# Altium integrated library AD Operational Amplifier.IntLib: 1114 symbols (part 11 of 13)
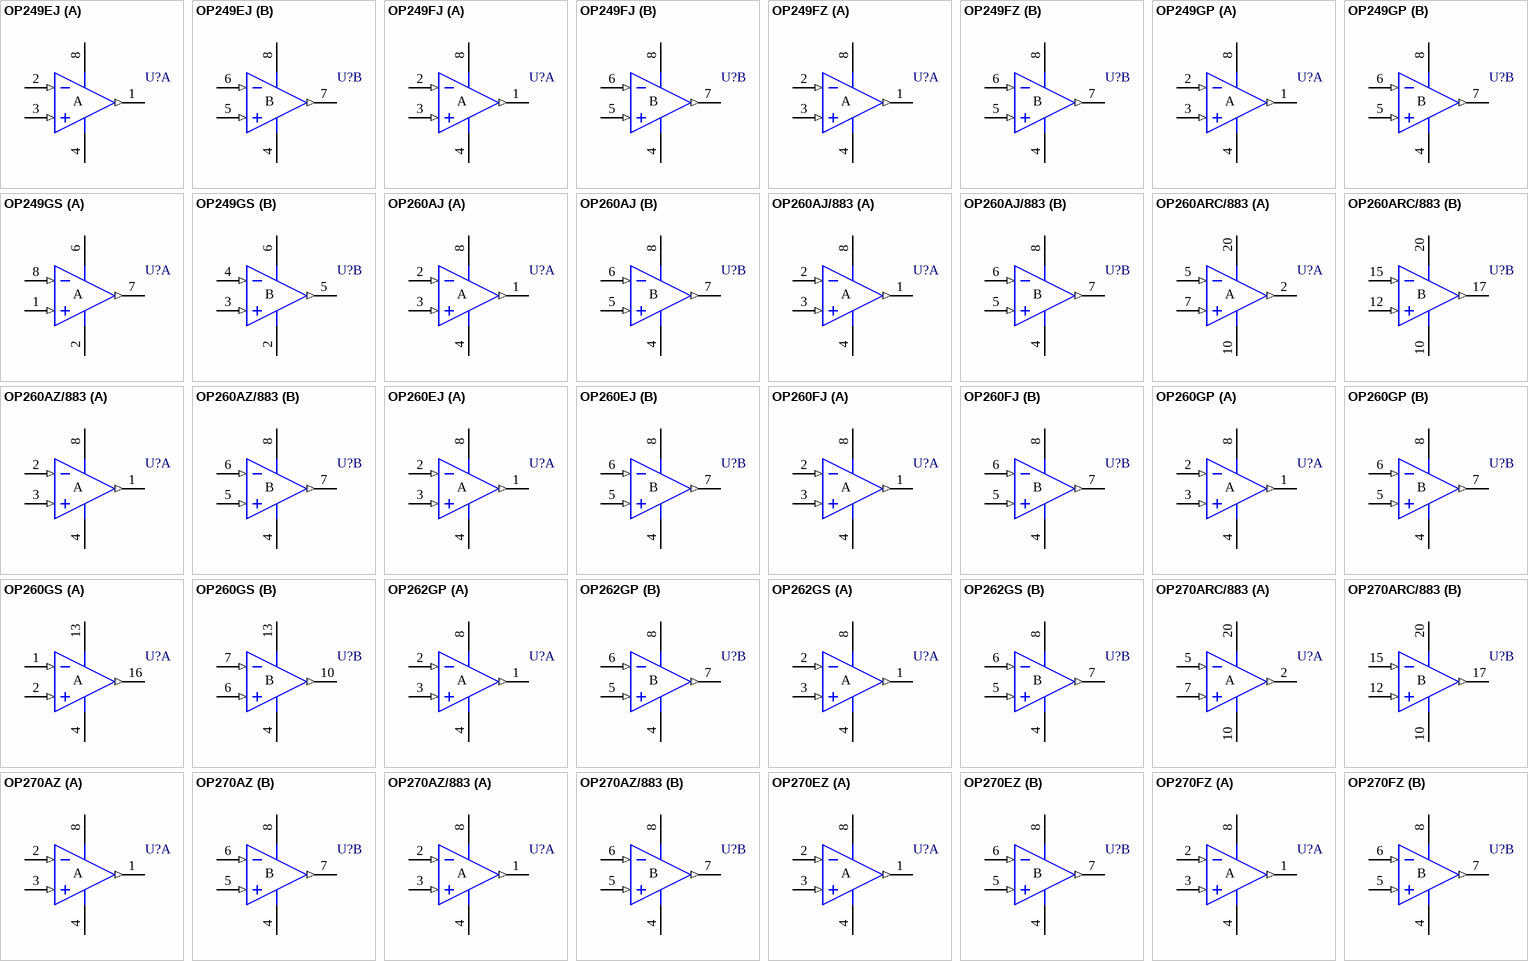
[diagram p56: symbols OP249EJ to OP270FZ]

## OP249EJ
designator U?
Dual, Precision JFET High-Speed Operational Amplifier; Package Information: Latest Revision: 1990; Published: 8-Jun-2000; Revision: 17-Jul-2002: Re-released for DXP Platform.; Datasheet: Designer's Reference Manual CD (REV. C 1998); Package Reference: H-08A; Publisher: Altium Limited
footprint H-08A (Can; 8 Leads; Pin Circle Dia. 5.08 mm; Lead Dia. 0.53 mm (max))
simulation model OP249E (SUBCKT)
pins on every part: 4 V- (power), 8 V+ (power)
part A pins: 1 OUT (out), 2 IN- (in), 3 IN+ (in)
part B pins: 5 IN+ (in), 6 IN- (in), 7 OUT (out)
part A text: A
part B text: B

## OP249FJ
designator U?
Dual, Precision JFET High-Speed Operational Amplifier; Package Information: Latest Revision: 1990; Published: 8-Jun-2000; Revision: 17-Jul-2002: Re-released for DXP Platform.; Datasheet: Amplifier Reference Manual (1992); Package Reference: H-08A; Publisher: Altium Limited
footprint H-08A (Can; 8 Leads; Pin Circle Dia. 5.08 mm; Lead Dia. 0.53 mm (max))
simulation model OP249F (SUBCKT)
pins on every part: 4 V- (power), 8 V+ (power)
part A pins: 1 OUT (out), 2 IN- (in), 3 IN+ (in)
part B pins: 5 IN+ (in), 6 IN- (in), 7 OUT (out)
part A text: A
part B text: B

## OP249FZ
designator U?
Dual, Precision JFET High-Speed Operational Amplifier; Package Information: Latest Revision: 1998; Published: 8-Jun-2000; Revision: 17-Jul-2002: Re-released for DXP Platform.; Datasheet: Designer's Reference Manual CD (REV. C 1998); Package Reference: Q-8; Publisher: Altium Limited
footprint Q-8 (DIP; 8 Leads; Row Spacing 7.62 mm; Pitch 2.54 mm)
simulation model OP249F (SUBCKT)
pins on every part: 4 V- (power), 8 V+ (power)
part A pins: 1 OUT (out), 2 IN- (in), 3 IN+ (in)
part B pins: 5 IN+ (in), 6 IN- (in), 7 OUT (out)
part A text: A
part B text: B

## OP249GP
designator U?
Dual, Precision JFET High-Speed Operational Amplifier; Code - JEDEC: MO-001-AN; Published: 8-Jun-2000; Revision: 17-Jul-2002: Re-released for DXP Platform.; Datasheet: Designer's Reference Manual CD (REV. C 1998); Package Reference: N-8_A; Publisher: Altium Limited
footprint N-8_A (DIP; 8 Leads; Row Spacing 7.62 mm; Pitch 2.54 mm)
simulation model OP249G (SUBCKT)
pins on every part: 4 V- (power), 8 V+ (power)
part A pins: 1 OUT (out), 2 IN- (in), 3 IN+ (in)
part B pins: 5 IN+ (in), 6 IN- (in), 7 OUT (out)
part A text: A
part B text: B

## OP249GS
designator U?
Dual, Precision JFET High-Speed Operational Amplifier; Package Information: Latest Revision: revA; Code - JEDEC: MS-012-AA; Code - IPC: SO8; Published: 8-Jun-2000; Revision: 17-Jul-2002: Re-released for DXP Platform.; Datasheet: Designer's Reference Manual CD (REV. C 1998); Package Reference: SO-8; Publisher: Altium Limited
footprint SO-8 (Small Outline; 8 Leads; Body Width 3.9 mm; Pitch 1.27 mm)
simulation model OP249G (SUBCKT)
pins on every part: 2 V- (power), 6 V+ (power)
part A pins: 1 IN+ (in), 7 OUT (out), 8 IN- (in)
part B pins: 3 IN+ (in), 4 IN- (in), 5 OUT (out)
part A text: A
part B text: B

## OP260AJ
designator U?
Dual, High-Speed, Current Feedback, Operational Amplifier; Package Information: Latest Revision: 1990; Note: Pin 4 connected to case.; Published: 8-Jun-2000; Revision: 17-Jul-2002: Re-released for DXP Platform.; Datasheet: Designer's Reference Manual CD (REV. C1 5/1990); Package Reference: H-08A; Publisher: Altium Limited
footprint H-08A (Can; 8 Leads; Pin Circle Dia. 5.08 mm; Lead Dia. 0.53 mm (max))
simulation model OP260 (SUBCKT)
pins on every part: 4 V- (power), 8 V+ (power)
part A pins: 1 OUT (out), 2 IN- (in), 3 IN+ (in)
part B pins: 5 IN+ (in), 6 IN- (in), 7 OUT (out)
part A text: A
part B text: B

## OP260AJ/883
designator U?
Dual, High-Speed, Current Feedback, Operational Amplifier; Package Information: Latest Revision: 1990; Note: Pin 4 connected to case.; Published: 8-Jun-2000; Revision: 17-Jul-2002: Re-released for DXP Platform.; Datasheet: Designer's Reference Manual CD (REV. C1 5/1990); Package Reference: H-08A; Publisher: Altium Limited
footprint H-08A (Can; 8 Leads; Pin Circle Dia. 5.08 mm; Lead Dia. 0.53 mm (max))
simulation model OP260 (SUBCKT)
pins on every part: 4 V- (power), 8 V+ (power)
part A pins: 1 OUT (out), 2 IN- (in), 3 IN+ (in)
part B pins: 5 IN+ (in), 6 IN- (in), 7 OUT (out)
part A text: A
part B text: B

## OP260ARC/883
designator U?
Dual, High-Speed, Current Feedback, Operational Amplifier; Note: Pins 1, 3, 4, 6, 8, 9, 11, 13, 14, 16, 18 and 19 are not connected (NC) and are not drawn.; Published: 8-Jun-2000; Revision: 17-Jul-2002: Re-released for DXP Platform.; Datasheet: Designer's Reference Manual CD (REV. C1 5/1990); Package Reference: E-20A; Publisher: Altium Limited
footprint E-20A (Leadless Chip Carrier; 20 Terminals; Body 8.9 x 8.9 mm)
simulation model OP260 (SUBCKT)
pins on every part: 10 V- (power), 20 V+ (power)
part A pins: 2 OUT (out), 5 IN- (in), 7 IN+ (in)
part B pins: 12 IN+ (in), 15 IN- (in), 17 OUT (out)
part A text: A
part B text: B

## OP260AZ/883
designator U?
Dual, High-Speed, Current Feedback, Operational Amplifier; Package Information: Latest Revision: 1998; Published: 8-Jun-2000; Revision: 17-Jul-2002: Re-released for DXP Platform.; Datasheet: Designer's Reference Manual CD (REV. C1 5/1990); Package Reference: Q-8; Publisher: Altium Limited
footprint Q-8 (DIP; 8 Leads; Row Spacing 7.62 mm; Pitch 2.54 mm)
simulation model OP260 (SUBCKT)
pins on every part: 4 V- (power), 8 V+ (power)
part A pins: 1 OUT (out), 2 IN- (in), 3 IN+ (in)
part B pins: 5 IN+ (in), 6 IN- (in), 7 OUT (out)
part A text: A
part B text: B

## OP260EJ
designator U?
Dual, High-Speed, Current Feedback, Operational Amplifier; Package Information: Latest Revision: 1990; Note: Pin 4 connected to case.; Published: 8-Jun-2000; Revision: 17-Jul-2002: Re-released for DXP Platform.; Datasheet: Designer's Reference Manual CD (REV. C1 5/1990); Package Reference: H-08A; Publisher: Altium Limited
footprint H-08A (Can; 8 Leads; Pin Circle Dia. 5.08 mm; Lead Dia. 0.53 mm (max))
simulation model OP260 (SUBCKT)
pins on every part: 4 V- (power), 8 V+ (power)
part A pins: 1 OUT (out), 2 IN- (in), 3 IN+ (in)
part B pins: 5 IN+ (in), 6 IN- (in), 7 OUT (out)
part A text: A
part B text: B

## OP260FJ
designator U?
Dual, High-Speed, Current Feedback, Operational Amplifier; Package Information: Latest Revision: 1990; Note: Pin 4 connected to case.; Published: 8-Jun-2000; Revision: 17-Jul-2002: Re-released for DXP Platform.; Datasheet: Designer's Reference Manual CD (REV. C1 5/1990); Package Reference: H-08A; Publisher: Altium Limited
footprint H-08A (Can; 8 Leads; Pin Circle Dia. 5.08 mm; Lead Dia. 0.53 mm (max))
simulation model OP260 (SUBCKT)
pins on every part: 4 V- (power), 8 V+ (power)
part A pins: 1 OUT (out), 2 IN- (in), 3 IN+ (in)
part B pins: 5 IN+ (in), 6 IN- (in), 7 OUT (out)
part A text: A
part B text: B

## OP260GP
designator U?
Dual, High-Speed, Current Feedback, Operational Amplifier; Code - JEDEC: MO-001-AN; Published: 8-Jun-2000; Revision: 17-Jul-2002: Re-released for DXP Platform.; Datasheet: Designer's Reference Manual CD (REV. C1 5/1990); Package Reference: N-8_A; Publisher: Altium Limited
footprint N-8_A (DIP; 8 Leads; Row Spacing 7.62 mm; Pitch 2.54 mm)
simulation model OP260 (SUBCKT)
pins on every part: 4 V- (power), 8 V+ (power)
part A pins: 1 OUT (out), 2 IN- (in), 3 IN+ (in)
part B pins: 5 IN+ (in), 6 IN- (in), 7 OUT (out)
part A text: A
part B text: B

## OP260GS
designator U?
Dual, High-Speed, Current Feedback, Operational Amplifier; Package Information: Latest Revision: revA 1996; Note: Pins 3, 5, 8, 9, 11, 12, 14 and 15 are not connected (NC) and are not drawn.; Code - JEDEC: MS-013-AA; Code - IPC: SO16W; Published: 8-Jun-2000; Revision: 17-Jul-2002: Re-released for DXP Platform.; Datasheet: Designer's Reference Manual CD (REV. C1 5/1990); Package Reference: SOL-16; Publisher: Altium Limited
footprint SOL-16 (Small Outline; 16 Leads; Body Width 7.5 mm; Pitch 1.27 mm)
simulation model OP260 (SUBCKT)
pins on every part: 4 V- (power), 13 V+ (power)
part A pins: 1 IN- (in), 2 IN+ (in), 16 OUT (out)
part B pins: 6 IN+ (in), 7 IN- (in), 10 OUT (out)
part A text: A
part B text: B

## OP262GP
designator U?
15MHz Rail-to-Rail Operational Amplifier; Code - JEDEC: MO-001-AN; Published: 8-Jun-2000; Revision: 17-Jul-2002: Re-released for DXP Platform.; Datasheet: Designer's Reference Manual CD (REV. B 1997); Package Reference: N-8_A; Publisher: Altium Limited
footprint N-8_A (DIP; 8 Leads; Row Spacing 7.62 mm; Pitch 2.54 mm)
simulation model OP262 (SUBCKT)
pins on every part: 4 V- (power), 8 V+ (power)
part A pins: 1 OUT (out), 2 IN- (in), 3 IN+ (in)
part B pins: 5 IN+ (in), 6 IN- (in), 7 OUT (out)
part A text: A
part B text: B

## OP262GS
designator U?
15MHz Rail-to-Rail Operational Amplifier; Package Information: Latest Revision: revA; Code - JEDEC: MS-012-AA; Code - IPC: SO8; Published: 8-Jun-2000; Revision: 17-Jul-2002: Re-released for DXP Platform.; Datasheet: Designer's Reference Manual CD (REV. B 1997); Package Reference: SO-8; Publisher: Altium Limited
footprint SO-8 (Small Outline; 8 Leads; Body Width 3.9 mm; Pitch 1.27 mm)
simulation model OP262 (SUBCKT)
pins on every part: 4 V- (power), 8 V+ (power)
part A pins: 1 OUT (out), 2 IN- (in), 3 IN+ (in)
part B pins: 5 IN+ (in), 6 IN- (in), 7 OUT (out)
part A text: A
part B text: B

## OP270ARC/883
designator U?
Dual Very Low-Noise Precision Operational Amplifier; Note: Pins 1, 3, 4, 6, 8, 9, 11, 13, 14, 16, 18 and 19 are not connected (NC) and are not drawn.; Published: 8-Jun-2000; Revision: 17-Jul-2002: Re-released for DXP Platform.; Datasheet: Designer's Reference Manual CD (1992); Package Reference: E-20A; Publisher: Altium Limited
footprint E-20A (Leadless Chip Carrier; 20 Terminals; Body 8.9 x 8.9 mm)
pins on every part: 10 V- (power), 20 V+ (power)
part A pins: 2 OUT (out), 5 IN- (in), 7 IN+ (in)
part B pins: 12 IN+ (in), 15 IN- (in), 17 OUT (out)
part A text: A
part B text: B

## OP270AZ
designator U?
Dual Very Low-Noise Precision Operational Amplifier; Package Information: Latest Revision: 1998; Published: 8-Jun-2000; Revision: 17-Jul-2002: Re-released for DXP Platform.; Datasheet: Designer's Reference Manual CD (1992); Package Reference: Q-8; Publisher: Altium Limited
footprint Q-8 (DIP; 8 Leads; Row Spacing 7.62 mm; Pitch 2.54 mm)
pins on every part: 4 V- (power), 8 V+ (power)
part A pins: 1 OUT (out), 2 IN- (in), 3 IN+ (in)
part B pins: 5 IN+ (in), 6 IN- (in), 7 OUT (out)
part A text: A
part B text: B

## OP270AZ/883
designator U?
Dual Very Low-Noise Precision Operational Amplifier; Package Information: Latest Revision: 1998; Published: 8-Jun-2000; Revision: 17-Jul-2002: Re-released for DXP Platform.; Datasheet: Designer's Reference Manual CD (1992); Package Reference: Q-8; Publisher: Altium Limited
footprint Q-8 (DIP; 8 Leads; Row Spacing 7.62 mm; Pitch 2.54 mm)
pins on every part: 4 V- (power), 8 V+ (power)
part A pins: 1 OUT (out), 2 IN- (in), 3 IN+ (in)
part B pins: 5 IN+ (in), 6 IN- (in), 7 OUT (out)
part A text: A
part B text: B

## OP270EZ
designator U?
Dual Very Low-Noise Precision Operational Amplifier; Package Information: Latest Revision: 1998; Published: 8-Jun-2000; Revision: 17-Jul-2002: Re-released for DXP Platform.; Datasheet: Designer's Reference Manual CD (1992); Package Reference: Q-8; Publisher: Altium Limited
footprint Q-8 (DIP; 8 Leads; Row Spacing 7.62 mm; Pitch 2.54 mm)
pins on every part: 4 V- (power), 8 V+ (power)
part A pins: 1 OUT (out), 2 IN- (in), 3 IN+ (in)
part B pins: 5 IN+ (in), 6 IN- (in), 7 OUT (out)
part A text: A
part B text: B

## OP270FZ
designator U?
Dual Very Low-Noise Precision Operational Amplifier; Package Information: Latest Revision: 1998; Published: 8-Jun-2000; Revision: 17-Jul-2002: Re-released for DXP Platform.; Datasheet: Designer's Reference Manual CD (1992); Package Reference: Q-8; Publisher: Altium Limited
footprint Q-8 (DIP; 8 Leads; Row Spacing 7.62 mm; Pitch 2.54 mm)
pins on every part: 4 V- (power), 8 V+ (power)
part A pins: 1 OUT (out), 2 IN- (in), 3 IN+ (in)
part B pins: 5 IN+ (in), 6 IN- (in), 7 OUT (out)
part A text: A
part B text: B

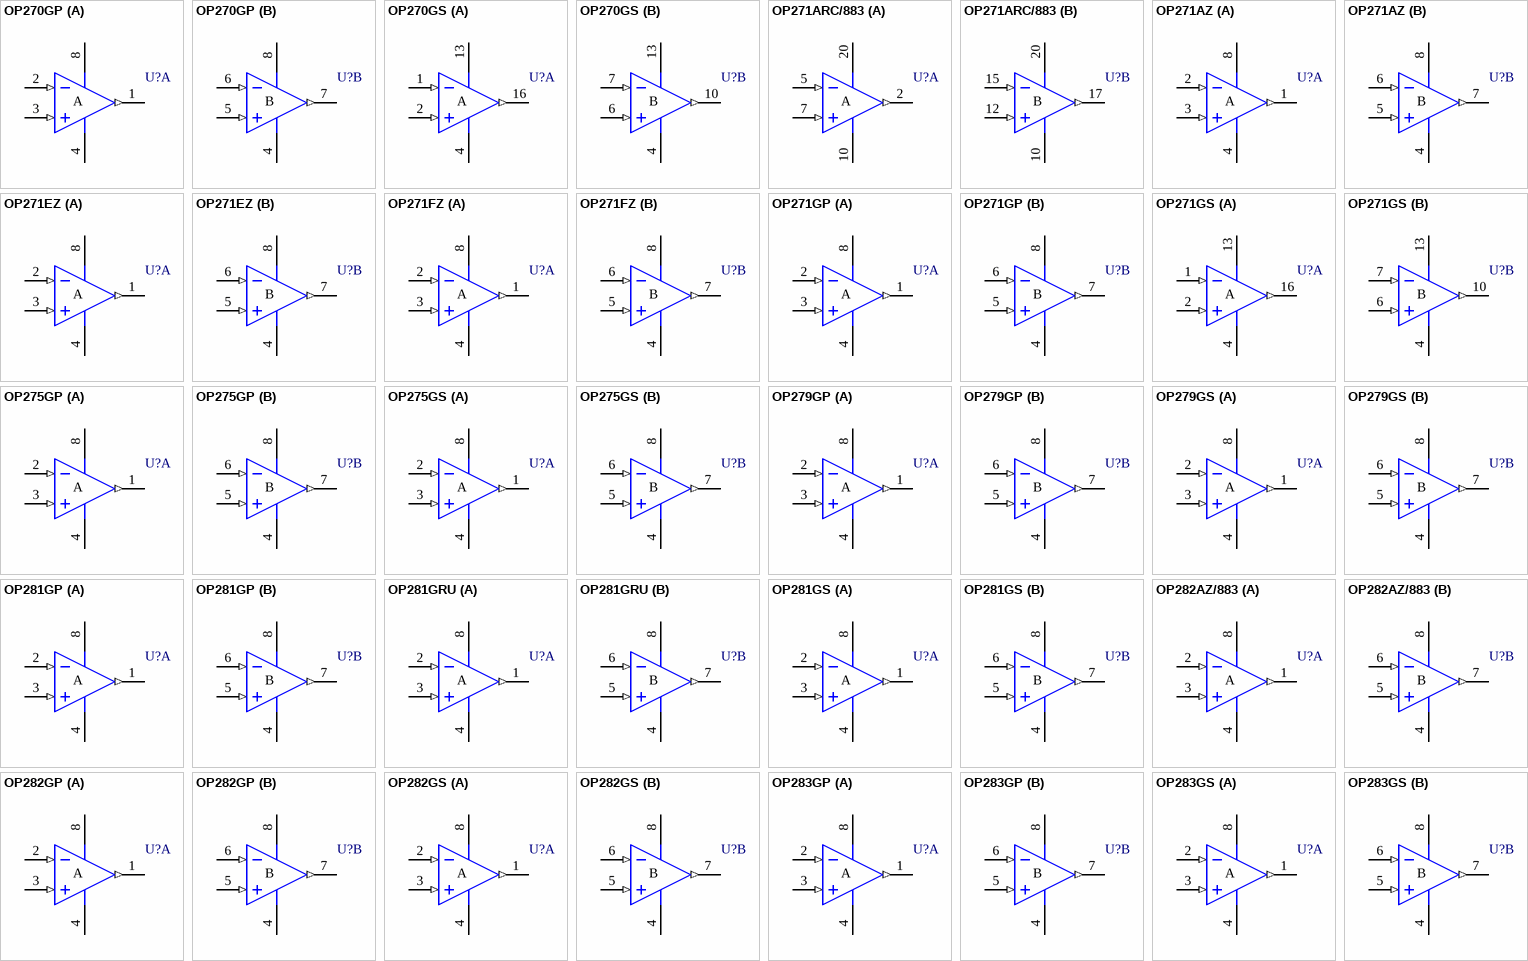
[diagram p32: symbols OP270GP to OP283GS]

## OP270GP
designator U?
Dual Very Low-Noise Precision Operational Amplifier; Code - JEDEC: MO-001-AN; Published: 8-Jun-2000; Revision: 17-Jul-2002: Re-released for DXP Platform.; Datasheet: Designer's Reference Manual CD (1992); Package Reference: N-8_A; Publisher: Altium Limited
footprint N-8_A (DIP; 8 Leads; Row Spacing 7.62 mm; Pitch 2.54 mm)
pins on every part: 4 V- (power), 8 V+ (power)
part A pins: 1 OUT (out), 2 IN- (in), 3 IN+ (in)
part B pins: 5 IN+ (in), 6 IN- (in), 7 OUT (out)
part A text: A
part B text: B

## OP270GS
designator U?
Dual Very Low-Noise Precision Operational Amplifier; Package Information: Latest Revision: revA 1996; Note: Pins 3, 5, 8, 9, 11, 12, 14 and 15 are not connected (NC) and are not drawn.; Code - JEDEC: MS-013-AA; Code - IPC: SO16W; Published: 8-Jun-2000; Revision: 17-Jul-2002: Re-released for DXP Platform.; Datasheet: Designer's Reference Manual CD (1992); Package Reference: SOL-16; Publisher: Altium Limited
footprint SOL-16 (Small Outline; 16 Leads; Body Width 7.5 mm; Pitch 1.27 mm)
pins on every part: 4 V- (power), 13 V+ (power)
part A pins: 1 IN- (in), 2 IN+ (in), 16 OUT (out)
part B pins: 6 IN+ (in), 7 IN- (in), 10 OUT (out)
part A text: A
part B text: B

## OP271ARC/883
designator U?
High-Speed, Dual Operational Amplifier; Note: Pins 1, 3, 4, 6, 8, 9, 11, 13, 14, 16, 18 and 19 are not connected (NC) and are not drawn.; Published: 8-Jun-2000; Revision: 17-Jul-2002: Re-released for DXP Platform.; Datasheet: Designer's Reference Manual CD (1992); Package Reference: E-20A; Publisher: Altium Limited
footprint E-20A (Leadless Chip Carrier; 20 Terminals; Body 8.9 x 8.9 mm)
pins on every part: 10 V- (power), 20 V+ (power)
part A pins: 2 OUT (out), 5 IN- (in), 7 IN+ (in)
part B pins: 12 IN+ (in), 15 IN- (in), 17 OUT (out)
part A text: A
part B text: B

## OP271AZ
designator U?
High-Speed, Dual Operational Amplifier; Package Information: Latest Revision: 1998; Published: 8-Jun-2000; Revision: 17-Jul-2002: Re-released for DXP Platform.; Datasheet: Designer's Reference Manual CD (1992); Package Reference: Q-8; Publisher: Altium Limited
footprint Q-8 (DIP; 8 Leads; Row Spacing 7.62 mm; Pitch 2.54 mm)
pins on every part: 4 V- (power), 8 V+ (power)
part A pins: 1 OUT (out), 2 IN- (in), 3 IN+ (in)
part B pins: 5 IN+ (in), 6 IN- (in), 7 OUT (out)
part A text: A
part B text: B

## OP271EZ
designator U?
High-Speed, Dual Operational Amplifier; Package Information: Latest Revision: 1998; Published: 8-Jun-2000; Revision: 17-Jul-2002: Re-released for DXP Platform.; Datasheet: Designer's Reference Manual CD (1992); Package Reference: Q-8; Publisher: Altium Limited
footprint Q-8 (DIP; 8 Leads; Row Spacing 7.62 mm; Pitch 2.54 mm)
pins on every part: 4 V- (power), 8 V+ (power)
part A pins: 1 OUT (out), 2 IN- (in), 3 IN+ (in)
part B pins: 5 IN+ (in), 6 IN- (in), 7 OUT (out)
part A text: A
part B text: B

## OP271FZ
designator U?
High-Speed, Dual Operational Amplifier; Package Information: Latest Revision: 1998; Published: 8-Jun-2000; Revision: 17-Jul-2002: Re-released for DXP Platform.; Datasheet: Designer's Reference Manual CD (1992); Package Reference: Q-8; Publisher: Altium Limited
footprint Q-8 (DIP; 8 Leads; Row Spacing 7.62 mm; Pitch 2.54 mm)
pins on every part: 4 V- (power), 8 V+ (power)
part A pins: 1 OUT (out), 2 IN- (in), 3 IN+ (in)
part B pins: 5 IN+ (in), 6 IN- (in), 7 OUT (out)
part A text: A
part B text: B

## OP271GP
designator U?
High-Speed, Dual Operational Amplifier; Code - JEDEC: MO-001-AN; Published: 8-Jun-2000; Revision: 17-Jul-2002: Re-released for DXP Platform.; Datasheet: Designer's Reference Manual CD (1992); Package Reference: N-8_A; Publisher: Altium Limited
footprint N-8_A (DIP; 8 Leads; Row Spacing 7.62 mm; Pitch 2.54 mm)
pins on every part: 4 V- (power), 8 V+ (power)
part A pins: 1 OUT (out), 2 IN- (in), 3 IN+ (in)
part B pins: 5 IN+ (in), 6 IN- (in), 7 OUT (out)
part A text: A
part B text: B

## OP271GS
designator U?
High-Speed, Dual Operational Amplifier; Package Information: Latest Revision: revA 1996; Note: Pins 3, 5, 8, 9, 11, 12, 14 and 15 are not connected (NC) and are not drawn.; Code - JEDEC: MS-013-AA; Code - IPC: SO16W; Published: 8-Jun-2000; Revision: 17-Jul-2002: Re-released for DXP Platform.; Datasheet: Designer's Reference Manual CD (1992); Package Reference: SOL-16; Publisher: Altium Limited
footprint SOL-16 (Small Outline; 16 Leads; Body Width 7.5 mm; Pitch 1.27 mm)
pins on every part: 4 V- (power), 13 V+ (power)
part A pins: 1 IN- (in), 2 IN+ (in), 16 OUT (out)
part B pins: 6 IN+ (in), 7 IN- (in), 10 OUT (out)
part A text: A
part B text: B

## OP275GP
designator U?
Dual Bipolar/JFET, Audio Operational Amplifier; Code - JEDEC: MO-001-AN; Published: 8-Jun-2000; Revision: 17-Jul-2002: Re-released for DXP Platform.; Datasheet: Designer's Reference Manual CD (REV. A 1995); Package Reference: N-8_A; Publisher: Altium Limited
footprint N-8_A (DIP; 8 Leads; Row Spacing 7.62 mm; Pitch 2.54 mm)
simulation model OP275G (SUBCKT)
pins on every part: 4 V- (power), 8 V+ (power)
part A pins: 1 OUT (out), 2 IN- (in), 3 IN+ (in)
part B pins: 5 IN+ (in), 6 IN- (in), 7 OUT (out)
part A text: A
part B text: B

## OP275GS
designator U?
Dual Bipolar/JFET, Audio Operational Amplifier; Package Information: Latest Revision: revA; Code - JEDEC: MS-012-AA; Code - IPC: SO8; Published: 8-Jun-2000; Revision: 17-Jul-2002: Re-released for DXP Platform.; Datasheet: Designer's Reference Manual CD (REV. A 1995); Package Reference: SO-8; Publisher: Altium Limited
footprint SO-8 (Small Outline; 8 Leads; Body Width 3.9 mm; Pitch 1.27 mm)
simulation model OP275G (SUBCKT)
pins on every part: 4 V- (power), 8 V+ (power)
part A pins: 1 OUT (out), 2 IN- (in), 3 IN+ (in)
part B pins: 5 IN+ (in), 6 IN- (in), 7 OUT (out)
part A text: A
part B text: B

## OP279GP
designator U?
Rail-to-Rail High-Output-Current Operational Amplifier; Code - JEDEC: MO-001-AN; Published: 8-Jun-2000; Revision: 17-Jul-2002: Re-released for DXP Platform.; Datasheet: Designer's Reference Manual CD (REV. D 1998); Package Reference: N-8_A; Publisher: Altium Limited
footprint N-8_A (DIP; 8 Leads; Row Spacing 7.62 mm; Pitch 2.54 mm)
simulation model OP279G (SUBCKT)
pins on every part: 4 V- (power), 8 V+ (power)
part A pins: 1 OUT (out), 2 IN- (in), 3 IN+ (in)
part B pins: 5 IN+ (in), 6 IN- (in), 7 OUT (out)
part A text: A
part B text: B

## OP279GS
designator U?
Rail-to-Rail High-Output-Current Operational Amplifier; Package Information: Latest Revision: revA; Code - JEDEC: MS-012-AA; Code - IPC: SO8; Published: 8-Jun-2000; Revision: 17-Jul-2002: Re-released for DXP Platform.; Datasheet: Designer's Reference Manual CD (REV. D 1998); Package Reference: SO-8; Publisher: Altium Limited
footprint SO-8 (Small Outline; 8 Leads; Body Width 3.9 mm; Pitch 1.27 mm)
simulation model OP279G (SUBCKT)
pins on every part: 4 V- (power), 8 V+ (power)
part A pins: 1 OUT (out), 2 IN- (in), 3 IN+ (in)
part B pins: 5 IN+ (in), 6 IN- (in), 7 OUT (out)
part A text: A
part B text: B

## OP281GP
designator U?
Ultra-Low Power, Rail-to-Rail Ouput Operational Amplifier; Code - JEDEC: MO-001-AN; Published: 8-Jun-2000; Revision: 17-Jul-2002: Re-released for DXP Platform.; Datasheet: Designer's Reference Manual CD (REV. 0 1996); Package Reference: N-8_A; Publisher: Altium Limited
footprint N-8_A (DIP; 8 Leads; Row Spacing 7.62 mm; Pitch 2.54 mm)
simulation model OP281 (SUBCKT)
pins on every part: 4 V- (power), 8 V+ (power)
part A pins: 1 OUT (out), 2 IN- (in), 3 IN+ (in)
part B pins: 5 IN+ (in), 6 IN- (in), 7 OUT (out)
part A text: A
part B text: B

## OP281GRU
designator U?
Ultra-Low Power, Rail-to-Rail Ouput Operational Amplifier; Package Information: Latest Revision: 1997; Published: 8-Jun-2000; Revision: 17-Jul-2002: Re-released for DXP Platform.; Datasheet: Designer's Reference Manual CD (REV. 0 1996); Package Reference: RU-8; Publisher: Altium Limited
footprint RU-8 (Shrink Small Outline; 8 Leads; Body Width 4.4 mm; Pitch 0.65 mm)
simulation model OP281 (SUBCKT)
pins on every part: 4 V- (power), 8 V+ (power)
part A pins: 1 OUT (out), 2 IN- (in), 3 IN+ (in)
part B pins: 5 IN+ (in), 6 IN- (in), 7 OUT (out)
part A text: A
part B text: B

## OP281GS
designator U?
Ultra-Low Power, Rail-to-Rail Ouput Operational Amplifier; Package Information: Latest Revision: revA; Code - JEDEC: MS-012-AA; Code - IPC: SO8; Published: 8-Jun-2000; Revision: 17-Jul-2002: Re-released for DXP Platform.; Datasheet: Designer's Reference Manual CD (REV. 0 1996); Package Reference: SO-8; Publisher: Altium Limited
footprint SO-8 (Small Outline; 8 Leads; Body Width 3.9 mm; Pitch 1.27 mm)
simulation model OP281 (SUBCKT)
pins on every part: 4 V- (power), 8 V+ (power)
part A pins: 1 OUT (out), 2 IN- (in), 3 IN+ (in)
part B pins: 5 IN+ (in), 6 IN- (in), 7 OUT (out)
part A text: A
part B text: B

## OP282AZ/883
designator U?
Dual Low-Power, High-Speed JFET Operational Amplifier; Package Information: Latest Revision: 1998; Published: 8-Jun-2000; Revision: 17-Jul-2002: Re-released for DXP Platform.; Datasheet: Amplifier Reference Manual (1992); Package Reference: Q-8; Publisher: Altium Limited
footprint Q-8 (DIP; 8 Leads; Row Spacing 7.62 mm; Pitch 2.54 mm)
simulation model OP282 (SUBCKT)
pins on every part: 4 V- (power), 8 V+ (power)
part A pins: 1 OUT (out), 2 IN- (in), 3 IN+ (in)
part B pins: 5 IN+ (in), 6 IN- (in), 7 OUT (out)
part A text: A
part B text: B

## OP282GP
designator U?
Dual Low-Power, High-Speed JFET Operational Amplifier; Code - JEDEC: MO-001-AN; Published: 8-Jun-2000; Revision: 17-Jul-2002: Re-released for DXP Platform.; Datasheet: Designer's Reference Manual CD (REV. B); Package Reference: N-8_A; Publisher: Altium Limited
footprint N-8_A (DIP; 8 Leads; Row Spacing 7.62 mm; Pitch 2.54 mm)
simulation model OP282G (SUBCKT)
pins on every part: 4 V- (power), 8 V+ (power)
part A pins: 1 OUT (out), 2 IN- (in), 3 IN+ (in)
part B pins: 5 IN+ (in), 6 IN- (in), 7 OUT (out)
part A text: A
part B text: B

## OP282GS
designator U?
Dual Low-Power, High-Speed JFET Operational Amplifier; Package Information: Latest Revision: revA; Code - JEDEC: MS-012-AA; Code - IPC: SO8; Published: 8-Jun-2000; Revision: 17-Jul-2002: Re-released for DXP Platform.; Datasheet: Designer's Reference Manual CD (REV. B); Package Reference: SO-8; Publisher: Altium Limited
footprint SO-8 (Small Outline; 8 Leads; Body Width 3.9 mm; Pitch 1.27 mm)
simulation model OP282G (SUBCKT)
pins on every part: 4 V- (power), 8 V+ (power)
part A pins: 1 OUT (out), 2 IN- (in), 3 IN+ (in)
part B pins: 5 IN+ (in), 6 IN- (in), 7 OUT (out)
part A text: A
part B text: B

## OP283GP
designator U?
5MHz Single-Supply Operational Amplifier; Code - JEDEC: MO-001-AN; Published: 8-Jun-2000; Revision: 17-Jul-2002: Re-released for DXP Platform.; Datasheet: Designer's Reference Manual CD (REV. B); Package Reference: N-8_A; Publisher: Altium Limited
footprint N-8_A (DIP; 8 Leads; Row Spacing 7.62 mm; Pitch 2.54 mm)
simulation model OP283G (SUBCKT)
pins on every part: 4 V- (power), 8 V+ (power)
part A pins: 1 OUT (out), 2 IN- (in), 3 IN+ (in)
part B pins: 5 IN+ (in), 6 IN- (in), 7 OUT (out)
part A text: A
part B text: B

## OP283GS
designator U?
5MHz Single-Supply Operational Amplifier; Package Information: Latest Revision: revA; Code - JEDEC: MS-012-AA; Code - IPC: SO8; Published: 8-Jun-2000; Revision: 17-Jul-2002: Re-released for DXP Platform.; Datasheet: Designer's Reference Manual CD (REV. B); Package Reference: SO-8; Publisher: Altium Limited
footprint SO-8 (Small Outline; 8 Leads; Body Width 3.9 mm; Pitch 1.27 mm)
simulation model OP283G (SUBCKT)
pins on every part: 4 V- (power), 8 V+ (power)
part A pins: 1 OUT (out), 2 IN- (in), 3 IN+ (in)
part B pins: 5 IN+ (in), 6 IN- (in), 7 OUT (out)
part A text: A
part B text: B

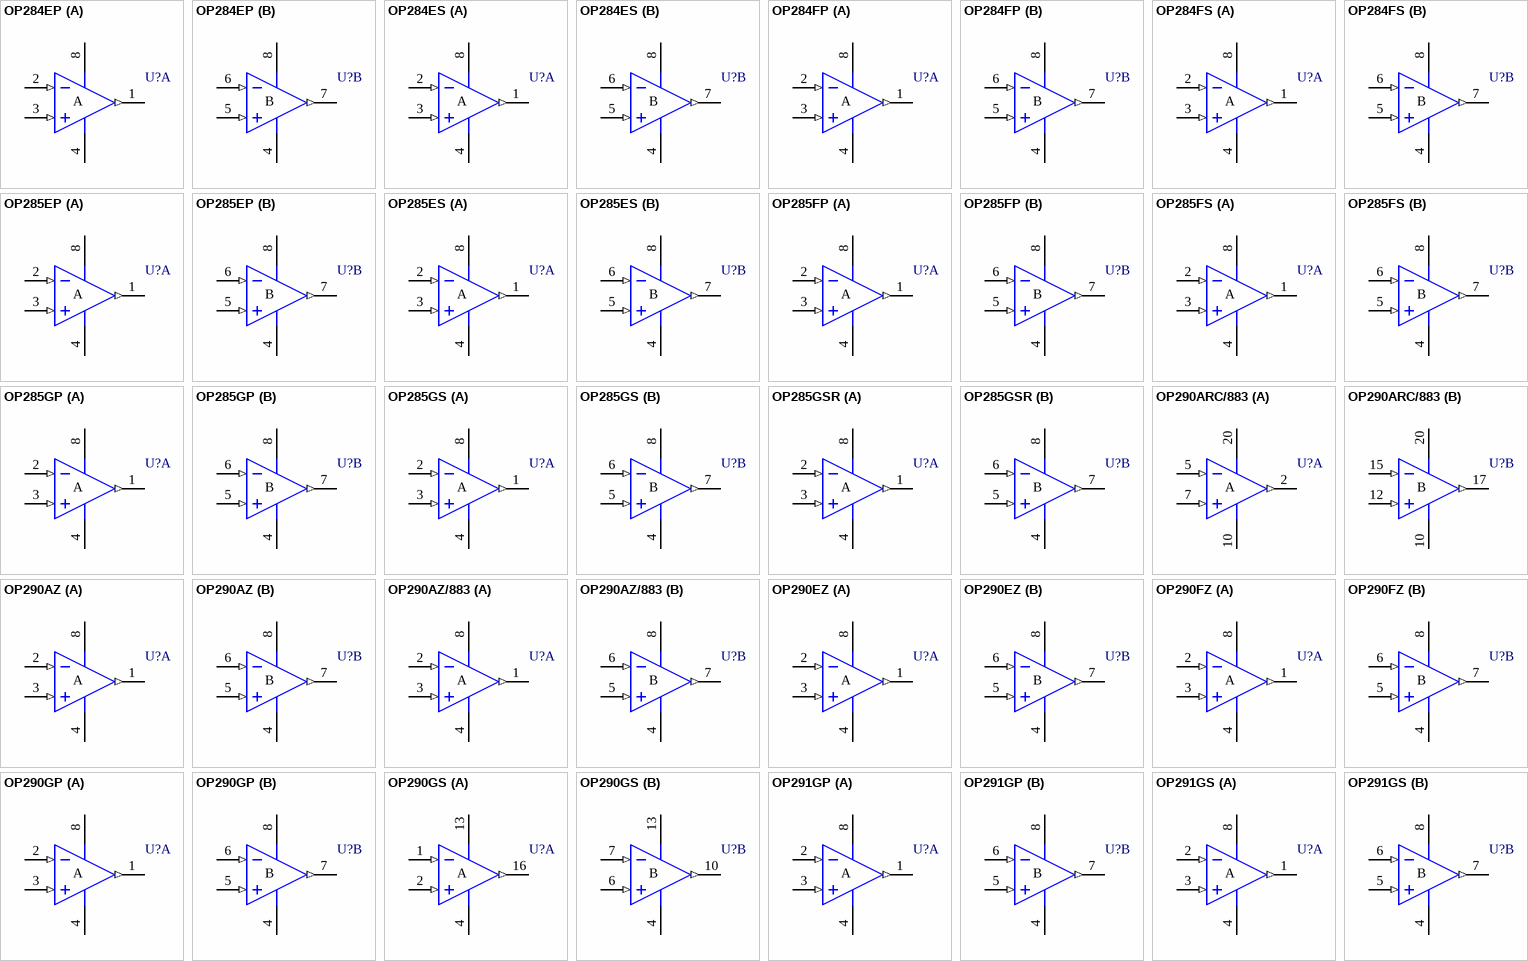
[diagram p33: symbols OP284EP to OP291GS]

## OP284EP
designator U?
Precision Rail-to-Rail Input and Output Operational Amplifier; Code - JEDEC: MO-001-AN; Published: 8-Jun-2000; Revision: 17-Jul-2002: Re-released for DXP Platform.; Datasheet: Designer's Reference Manual CD (REV. 0 1996); Package Reference: N-8_A; Publisher: Altium Limited
footprint N-8_A (DIP; 8 Leads; Row Spacing 7.62 mm; Pitch 2.54 mm)
simulation model OP284E (SUBCKT)
pins on every part: 4 V- (power), 8 V+ (power)
part A pins: 1 OUT (out), 2 IN- (in), 3 IN+ (in)
part B pins: 5 IN+ (in), 6 IN- (in), 7 OUT (out)
part A text: A
part B text: B

## OP284ES
designator U?
Precision Rail-to-Rail Input and Output Operational Amplifier; Package Information: Latest Revision: revA; Code - JEDEC: MS-012-AA; Code - IPC: SO8; Published: 8-Jun-2000; Revision: 17-Jul-2002: Re-released for DXP Platform.; Datasheet: Designer's Reference Manual CD (REV. 0 1996); Package Reference: SO-8; Publisher: Altium Limited
footprint SO-8 (Small Outline; 8 Leads; Body Width 3.9 mm; Pitch 1.27 mm)
simulation model OP284E (SUBCKT)
pins on every part: 4 V- (power), 8 V+ (power)
part A pins: 1 OUT (out), 2 IN- (in), 3 IN+ (in)
part B pins: 5 IN+ (in), 6 IN- (in), 7 OUT (out)
part A text: A
part B text: B

## OP284FP
designator U?
Precision Rail-to-Rail Input and Output Operational Amplifier; Code - JEDEC: MO-001-AN; Published: 8-Jun-2000; Revision: 17-Jul-2002: Re-released for DXP Platform.; Datasheet: Designer's Reference Manual CD (REV. 0 1996); Package Reference: N-8_A; Publisher: Altium Limited
footprint N-8_A (DIP; 8 Leads; Row Spacing 7.62 mm; Pitch 2.54 mm)
simulation model OP284F (SUBCKT)
pins on every part: 4 V- (power), 8 V+ (power)
part A pins: 1 OUT (out), 2 IN- (in), 3 IN+ (in)
part B pins: 5 IN+ (in), 6 IN- (in), 7 OUT (out)
part A text: A
part B text: B

## OP284FS
designator U?
Precision Rail-to-Rail Input and Output Operational Amplifier; Package Information: Latest Revision: revA; Code - JEDEC: MS-012-AA; Code - IPC: SO8; Published: 8-Jun-2000; Revision: 17-Jul-2002: Re-released for DXP Platform.; Datasheet: Designer's Reference Manual CD (REV. 0 1996); Package Reference: SO-8; Publisher: Altium Limited
footprint SO-8 (Small Outline; 8 Leads; Body Width 3.9 mm; Pitch 1.27 mm)
simulation model OP284F (SUBCKT)
pins on every part: 4 V- (power), 8 V+ (power)
part A pins: 1 OUT (out), 2 IN- (in), 3 IN+ (in)
part B pins: 5 IN+ (in), 6 IN- (in), 7 OUT (out)
part A text: A
part B text: B

## OP285EP
designator U?
Dual, 9MHz Precision Operational Amplifier; Code - JEDEC: MO-001-AN; Published: 8-Jun-2000; Revision: 17-Jul-2002: Re-released for DXP Platform.; Datasheet: Amplifier Reference Manual (1992); Package Reference: N-8_A; Publisher: Altium Limited
footprint N-8_A (DIP; 8 Leads; Row Spacing 7.62 mm; Pitch 2.54 mm)
simulation model OP285 (SUBCKT)
pins on every part: 4 V- (power), 8 V+ (power)
part A pins: 1 OUT (out), 2 IN- (in), 3 IN+ (in)
part B pins: 5 IN+ (in), 6 IN- (in), 7 OUT (out)
part A text: A
part B text: B

## OP285ES
designator U?
Dual, 9MHz Precision Operational Amplifier; Package Information: Latest Revision: revA; Code - JEDEC: MS-012-AA; Code - IPC: SO8; Published: 8-Jun-2000; Revision: 17-Jul-2002: Re-released for DXP Platform.; Datasheet: Amplifier Reference Manual (1992); Package Reference: SO-8; Publisher: Altium Limited
footprint SO-8 (Small Outline; 8 Leads; Body Width 3.9 mm; Pitch 1.27 mm)
simulation model OP285 (SUBCKT)
pins on every part: 4 V- (power), 8 V+ (power)
part A pins: 1 OUT (out), 2 IN- (in), 3 IN+ (in)
part B pins: 5 IN+ (in), 6 IN- (in), 7 OUT (out)
part A text: A
part B text: B

## OP285FP
designator U?
Dual, 9MHz Precision Operational Amplifier; Code - JEDEC: MO-001-AN; Published: 8-Jun-2000; Revision: 17-Jul-2002: Re-released for DXP Platform.; Datasheet: Amplifier Reference Manual (1992); Package Reference: N-8_A; Publisher: Altium Limited
footprint N-8_A (DIP; 8 Leads; Row Spacing 7.62 mm; Pitch 2.54 mm)
simulation model OP285 (SUBCKT)
pins on every part: 4 V- (power), 8 V+ (power)
part A pins: 1 OUT (out), 2 IN- (in), 3 IN+ (in)
part B pins: 5 IN+ (in), 6 IN- (in), 7 OUT (out)
part A text: A
part B text: B

## OP285FS
designator U?
Dual, 9MHz Precision Operational Amplifier; Package Information: Latest Revision: revA; Code - JEDEC: MS-012-AA; Code - IPC: SO8; Published: 8-Jun-2000; Revision: 17-Jul-2002: Re-released for DXP Platform.; Datasheet: Amplifier Reference Manual (1992); Package Reference: SO-8; Publisher: Altium Limited
footprint SO-8 (Small Outline; 8 Leads; Body Width 3.9 mm; Pitch 1.27 mm)
simulation model OP285 (SUBCKT)
pins on every part: 4 V- (power), 8 V+ (power)
part A pins: 1 OUT (out), 2 IN- (in), 3 IN+ (in)
part B pins: 5 IN+ (in), 6 IN- (in), 7 OUT (out)
part A text: A
part B text: B

## OP285GP
designator U?
Dual, 9MHz Precision Operational Amplifier; Code - JEDEC: MO-001-AN; Published: 8-Jun-2000; Revision: 17-Jul-2002: Re-released for DXP Platform.; Datasheet: Designer's Reference Manual CD (REV. 0 ); Package Reference: N-8_A; Publisher: Altium Limited
footprint N-8_A (DIP; 8 Leads; Row Spacing 7.62 mm; Pitch 2.54 mm)
simulation model OP285G (SUBCKT)
pins on every part: 4 V- (power), 8 V+ (power)
part A pins: 1 OUT (out), 2 IN- (in), 3 IN+ (in)
part B pins: 5 IN+ (in), 6 IN- (in), 7 OUT (out)
part A text: A
part B text: B

## OP285GS
designator U?
Dual, 9MHz Precision Operational Amplifier; Package Information: Latest Revision: revA; Code - JEDEC: MS-012-AA; Code - IPC: SO8; Published: 8-Jun-2000; Revision: 17-Jul-2002: Re-released for DXP Platform.; Datasheet: Designer's Reference Manual CD (REV. 0 ); Package Reference: SO-8; Publisher: Altium Limited
footprint SO-8 (Small Outline; 8 Leads; Body Width 3.9 mm; Pitch 1.27 mm)
simulation model OP285G (SUBCKT)
pins on every part: 4 V- (power), 8 V+ (power)
part A pins: 1 OUT (out), 2 IN- (in), 3 IN+ (in)
part B pins: 5 IN+ (in), 6 IN- (in), 7 OUT (out)
part A text: A
part B text: B

## OP285GSR
designator U?
Dual, 9MHz Precision Operational Amplifier; Package Information: Latest Revision: revA; Code - JEDEC: MS-012-AA; Code - IPC: SO8; Published: 8-Jun-2000; Revision: 17-Jul-2002: Re-released for DXP Platform.; Datasheet: Designer's Reference Manual CD (REV. 0 ); Package Reference: SO-8; Publisher: Altium Limited
footprint SO-8 (Small Outline; 8 Leads; Body Width 3.9 mm; Pitch 1.27 mm)
simulation model OP285G (SUBCKT)
pins on every part: 4 V- (power), 8 V+ (power)
part A pins: 1 OUT (out), 2 IN- (in), 3 IN+ (in)
part B pins: 5 IN+ (in), 6 IN- (in), 7 OUT (out)
part A text: A
part B text: B

## OP290ARC/883
designator U?
Precision, Low-Power, Micropower Dual Operational Amplifier; Note: Pins 1, 3, 4, 6, 8, 9, 11, 13, 14, 16, 18 and 19 are not connected (NC) and are not drawn.; Published: 8-Jun-2000; Revision: 17-Jul-2002: Re-released for DXP Platform.; Datasheet: Designer's Reference Manual CD (1992); Package Reference: E-20A; Publisher: Altium Limited
footprint E-20A (Leadless Chip Carrier; 20 Terminals; Body 8.9 x 8.9 mm)
pins on every part: 10 V- (power), 20 V+ (power)
part A pins: 2 OUT (out), 5 IN- (in), 7 IN+ (in)
part B pins: 12 IN+ (in), 15 IN- (in), 17 OUT (out)
part A text: A
part B text: B

## OP290AZ
designator U?
Precision, Low-Power, Micropower Dual Operational Amplifier; Package Information: Latest Revision: 1998; Published: 8-Jun-2000; Revision: 17-Jul-2002: Re-released for DXP Platform.; Datasheet: Designer's Reference Manual CD (1992); Package Reference: Q-8; Publisher: Altium Limited
footprint Q-8 (DIP; 8 Leads; Row Spacing 7.62 mm; Pitch 2.54 mm)
pins on every part: 4 V- (power), 8 V+ (power)
part A pins: 1 OUT (out), 2 IN- (in), 3 IN+ (in)
part B pins: 5 IN+ (in), 6 IN- (in), 7 OUT (out)
part A text: A
part B text: B

## OP290AZ/883
designator U?
Precision, Low-Power, Micropower Dual Operational Amplifier; Package Information: Latest Revision: 1998; Published: 8-Jun-2000; Revision: 17-Jul-2002: Re-released for DXP Platform.; Datasheet: Designer's Reference Manual CD (1992); Package Reference: Q-8; Publisher: Altium Limited
footprint Q-8 (DIP; 8 Leads; Row Spacing 7.62 mm; Pitch 2.54 mm)
pins on every part: 4 V- (power), 8 V+ (power)
part A pins: 1 OUT (out), 2 IN- (in), 3 IN+ (in)
part B pins: 5 IN+ (in), 6 IN- (in), 7 OUT (out)
part A text: A
part B text: B

## OP290EZ
designator U?
Precision, Low-Power, Micropower Dual Operational Amplifier; Package Information: Latest Revision: 1998; Published: 8-Jun-2000; Revision: 17-Jul-2002: Re-released for DXP Platform.; Datasheet: Designer's Reference Manual CD (1992); Package Reference: Q-8; Publisher: Altium Limited
footprint Q-8 (DIP; 8 Leads; Row Spacing 7.62 mm; Pitch 2.54 mm)
pins on every part: 4 V- (power), 8 V+ (power)
part A pins: 1 OUT (out), 2 IN- (in), 3 IN+ (in)
part B pins: 5 IN+ (in), 6 IN- (in), 7 OUT (out)
part A text: A
part B text: B

## OP290FZ
designator U?
Precision, Low-Power, Micropower Dual Operational Amplifier; Package Information: Latest Revision: 1998; Published: 8-Jun-2000; Revision: 17-Jul-2002: Re-released for DXP Platform.; Datasheet: Designer's Reference Manual CD (1992); Package Reference: Q-8; Publisher: Altium Limited
footprint Q-8 (DIP; 8 Leads; Row Spacing 7.62 mm; Pitch 2.54 mm)
pins on every part: 4 V- (power), 8 V+ (power)
part A pins: 1 OUT (out), 2 IN- (in), 3 IN+ (in)
part B pins: 5 IN+ (in), 6 IN- (in), 7 OUT (out)
part A text: A
part B text: B

## OP290GP
designator U?
Precision, Low-Power, Micropower Dual Operational Amplifier; Code - JEDEC: MO-001-AN; Published: 8-Jun-2000; Revision: 17-Jul-2002: Re-released for DXP Platform.; Datasheet: Designer's Reference Manual CD (1992); Package Reference: N-8_A; Publisher: Altium Limited
footprint N-8_A (DIP; 8 Leads; Row Spacing 7.62 mm; Pitch 2.54 mm)
pins on every part: 4 V- (power), 8 V+ (power)
part A pins: 1 OUT (out), 2 IN- (in), 3 IN+ (in)
part B pins: 5 IN+ (in), 6 IN- (in), 7 OUT (out)
part A text: A
part B text: B

## OP290GS
designator U?
Precision, Low-Power, Micropower Dual Operational Amplifier; Package Information: Latest Revision: revA 1996; Note: Pins 3, 5, 8, 9, 11, 12, 14 and 15 are not connected (NC) and are not drawn.; Code - JEDEC: MS-013-AA; Code - IPC: SO16W; Published: 8-Jun-2000; Revision: 17-Jul-2002: Re-released for DXP Platform.; Datasheet: Designer's Reference Manual CD (1992); Package Reference: SOL-16; Publisher: Altium Limited
footprint SOL-16 (Small Outline; 16 Leads; Body Width 7.5 mm; Pitch 1.27 mm)
pins on every part: 4 V- (power), 13 V+ (power)
part A pins: 1 IN- (in), 2 IN+ (in), 16 OUT (out)
part B pins: 6 IN+ (in), 7 IN- (in), 10 OUT (out)
part A text: A
part B text: B

## OP291GP
designator U?
Micropower Single-Supply Rail-to-Rail Input/Output Operational Amplifier; Code - JEDEC: MO-001-AN; Published: 8-Jun-2000; Revision: 17-Jul-2002: Re-released for DXP Platform.; Datasheet: Designer's Reference Manual CD (REV. 0); Package Reference: N-8_A; Publisher: Altium Limited
footprint N-8_A (DIP; 8 Leads; Row Spacing 7.62 mm; Pitch 2.54 mm)
simulation model OP291G (SUBCKT)
pins on every part: 4 V- (power), 8 V+ (power)
part A pins: 1 OUT (out), 2 IN- (in), 3 IN+ (in)
part B pins: 5 IN+ (in), 6 IN- (in), 7 OUT (out)
part A text: A
part B text: B

## OP291GS
designator U?
Micropower Single-Supply Rail-to-Rail Input/Output Operational Amplifier; Package Information: Latest Revision: revA; Code - JEDEC: MS-012-AA; Code - IPC: SO8; Published: 8-Jun-2000; Revision: 17-Jul-2002: Re-released for DXP Platform.; Datasheet: Designer's Reference Manual CD (REV. 0); Package Reference: SO-8; Publisher: Altium Limited
footprint SO-8 (Small Outline; 8 Leads; Body Width 3.9 mm; Pitch 1.27 mm)
simulation model OP291G (SUBCKT)
pins on every part: 4 V- (power), 8 V+ (power)
part A pins: 1 OUT (out), 2 IN- (in), 3 IN+ (in)
part B pins: 5 IN+ (in), 6 IN- (in), 7 OUT (out)
part A text: A
part B text: B

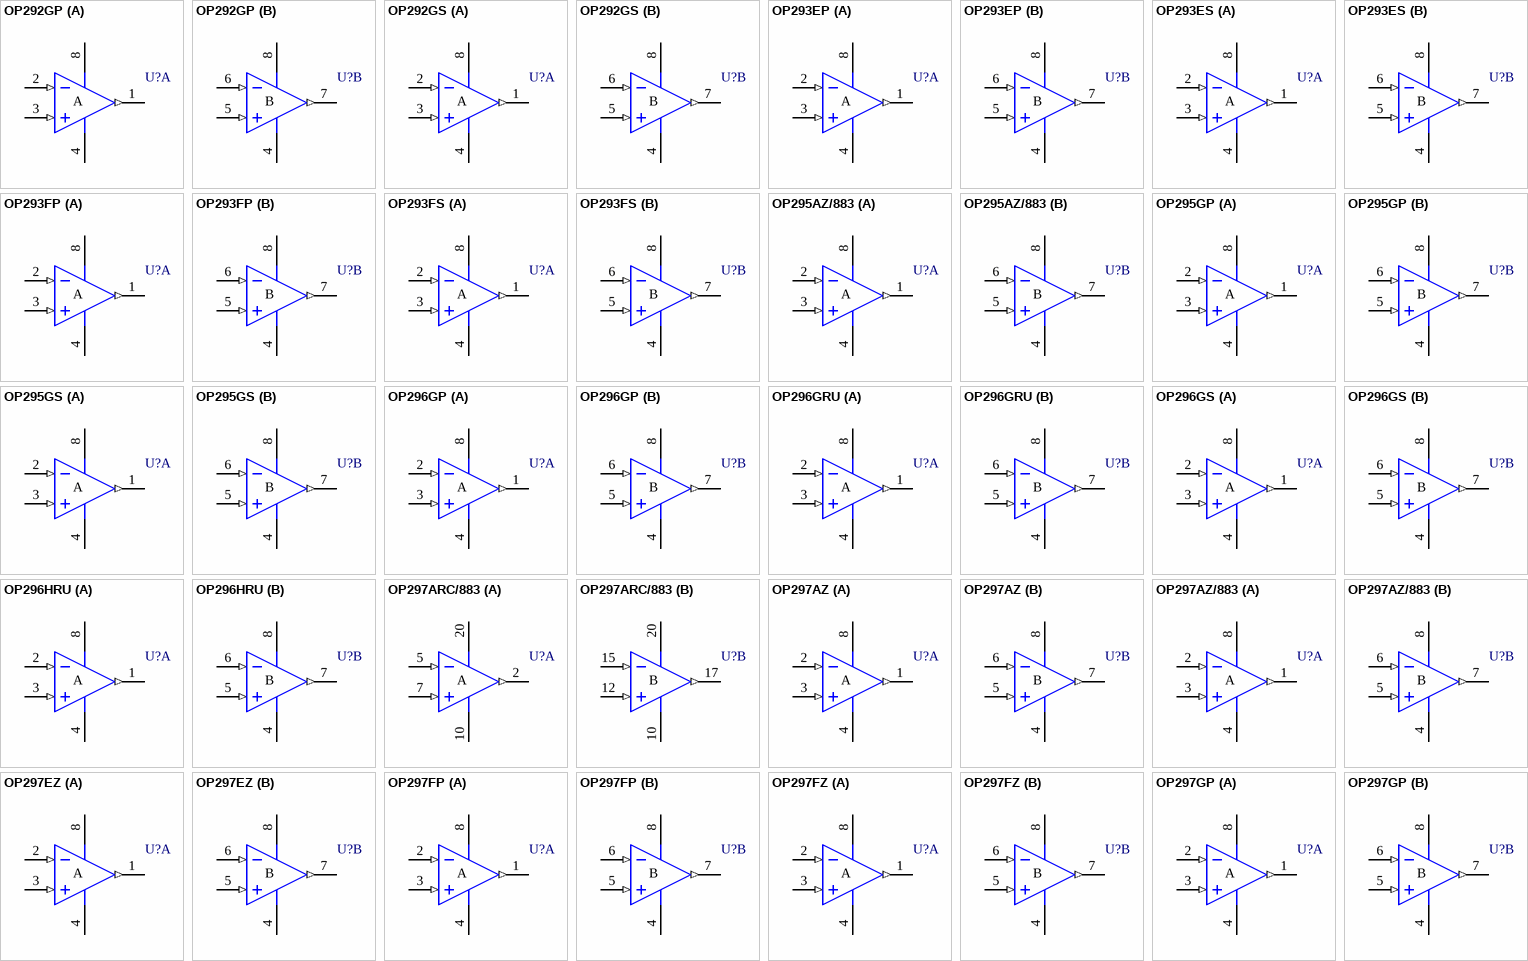
[diagram p34: symbols OP292GP to OP297GP]

## OP292GP
designator U?
Dual Single-Supply Operational Amplifier; Code - JEDEC: MO-001-AN; Published: 8-Jun-2000; Revision: 17-Jul-2002: Re-released for DXP Platform.; Datasheet: Designer's Reference Manual CD (REV. 0 ); Package Reference: N-8_A; Publisher: Altium Limited
footprint N-8_A (DIP; 8 Leads; Row Spacing 7.62 mm; Pitch 2.54 mm)
simulation model OP292G (SUBCKT)
pins on every part: 4 V- (power), 8 V+ (power)
part A pins: 1 OUT (out), 2 IN- (in), 3 IN+ (in)
part B pins: 5 IN+ (in), 6 IN- (in), 7 OUT (out)
part A text: A
part B text: B

## OP292GS
designator U?
Dual Single-Supply Operational Amplifier; Package Information: Latest Revision: REV. B; Code - JEDEC: MS-012-AA; Code - IPC: SO8; Published: 8-Jun-2000; Revision: 17-Jul-2002: Re-released for DXP Platform.; Datasheet: Designer's Reference Manual CD (REV. 0); Package Reference: R-8; Publisher: Altium Limited
footprint R-8 (Small Outline; 8 Leads; Body Width 3.9 mm; Pitch 1.27 mm)
simulation model OP292G (SUBCKT)
pins on every part: 4 V- (power), 8 V+ (power)
part A pins: 1 OUT (out), 2 IN- (in), 3 IN+ (in)
part B pins: 5 IN+ (in), 6 IN- (in), 7 OUT (out)
part A text: A
part B text: B

## OP293EP
designator U?
Precision, Micropower Operational Amplifier; Code - JEDEC: MO-001-AN; Published: 8-Jun-2000; Revision: 17-Jul-2002: Re-released for DXP Platform.; Datasheet: Designer's Reference Manual CD (REV. A 1996); Package Reference: N-8_A; Publisher: Altium Limited
footprint N-8_A (DIP; 8 Leads; Row Spacing 7.62 mm; Pitch 2.54 mm)
simulation model OP293E (SUBCKT)
pins on every part: 4 V- (power), 8 V+ (power)
part A pins: 1 OUT (out), 2 IN- (in), 3 IN+ (in)
part B pins: 5 IN+ (in), 6 IN- (in), 7 OUT (out)
part A text: A
part B text: B

## OP293ES
designator U?
Precision, Micropower Operational Amplifier; Package Information: Latest Revision: revA; Code - JEDEC: MS-012-AA; Code - IPC: SO8; Published: 8-Jun-2000; Revision: 17-Jul-2002: Re-released for DXP Platform.; Datasheet: Designer's Reference Manual CD (REV. A 1996); Package Reference: SO-8; Publisher: Altium Limited
footprint SO-8 (Small Outline; 8 Leads; Body Width 3.9 mm; Pitch 1.27 mm)
simulation model OP293E (SUBCKT)
pins on every part: 4 V- (power), 8 V+ (power)
part A pins: 1 OUT (out), 2 IN- (in), 3 IN+ (in)
part B pins: 5 IN+ (in), 6 IN- (in), 7 OUT (out)
part A text: A
part B text: B

## OP293FP
designator U?
Precision, Micropower Operational Amplifier; Code - JEDEC: MO-001-AN; Published: 8-Jun-2000; Revision: 17-Jul-2002: Re-released for DXP Platform.; Datasheet: Designer's Reference Manual CD (REV. A 1996); Package Reference: N-8_A; Publisher: Altium Limited
footprint N-8_A (DIP; 8 Leads; Row Spacing 7.62 mm; Pitch 2.54 mm)
simulation model OP293F (SUBCKT)
pins on every part: 4 V- (power), 8 V+ (power)
part A pins: 1 OUT (out), 2 IN- (in), 3 IN+ (in)
part B pins: 5 IN+ (in), 6 IN- (in), 7 OUT (out)
part A text: A
part B text: B

## OP293FS
designator U?
Precision, Micropower Operational Amplifier; Package Information: Latest Revision: revA; Code - JEDEC: MS-012-AA; Code - IPC: SO8; Published: 8-Jun-2000; Revision: 17-Jul-2002: Re-released for DXP Platform.; Datasheet: Designer's Reference Manual CD (REV. A 1996); Package Reference: SO-8; Publisher: Altium Limited
footprint SO-8 (Small Outline; 8 Leads; Body Width 3.9 mm; Pitch 1.27 mm)
simulation model OP293F (SUBCKT)
pins on every part: 4 V- (power), 8 V+ (power)
part A pins: 1 OUT (out), 2 IN- (in), 3 IN+ (in)
part B pins: 5 IN+ (in), 6 IN- (in), 7 OUT (out)
part A text: A
part B text: B

## OP295AZ/883
designator U?
Rail-to-Rail Operational Amplifier; Package Information: Latest Revision: 1998; Published: 8-Jun-2000; Revision: 17-Jul-2002: Re-released for DXP Platform.; Datasheet: Amplifier Reference Manual (1992); Package Reference: Q-8; Publisher: Altium Limited
footprint Q-8 (DIP; 8 Leads; Row Spacing 7.62 mm; Pitch 2.54 mm)
pins on every part: 4 V- (power), 8 V+ (power)
part A pins: 1 OUT (out), 2 IN- (in), 3 IN+ (in)
part B pins: 5 IN+ (in), 6 IN- (in), 7 OUT (out)
part A text: A
part B text: B

## OP295GP
designator U?
Dual Rail-to-Rail Operational Amplifier; Code - JEDEC: MO-001-AN; Published: 8-Jun-2000; Revision: 17-Jul-2002: Re-released for DXP Platform.; Datasheet: Designer's Reference Manual CD (REV. B 1995); Package Reference: N-8_A; Publisher: Altium Limited
footprint N-8_A (DIP; 8 Leads; Row Spacing 7.62 mm; Pitch 2.54 mm)
pins on every part: 4 V- (power), 8 V+ (power)
part A pins: 1 OUT (out), 2 IN- (in), 3 IN+ (in)
part B pins: 5 IN+ (in), 6 IN- (in), 7 OUT (out)
part A text: A
part B text: B

## OP295GS
designator U?
Dual Rail-to-Rail Operational Amplifier; Package Information: Latest Revision: revA; Code - JEDEC: MS-012-AA; Code - IPC: SO8; Published: 8-Jun-2000; Revision: 17-Jul-2002: Re-released for DXP Platform.; Datasheet: Designer's Reference Manual CD (REV. B 1995); Package Reference: SO-8; Publisher: Altium Limited
footprint SO-8 (Small Outline; 8 Leads; Body Width 3.9 mm; Pitch 1.27 mm)
pins on every part: 4 V- (power), 8 V+ (power)
part A pins: 1 OUT (out), 2 IN- (in), 3 IN+ (in)
part B pins: 5 IN+ (in), 6 IN- (in), 7 OUT (out)
part A text: A
part B text: B

## OP296GP
designator U?
Micropower, Rail-to-Rail Input and Output Operational Amplifier; Code - JEDEC: MO-001-AN; Published: 8-Jun-2000; Revision: 17-Jul-2002: Re-released for DXP Platform.; Datasheet: Latest Revision: REV. B 1998; Package Reference: N-8_A; Publisher: Altium Limited
footprint N-8_A (DIP; 8 Leads; Row Spacing 7.62 mm; Pitch 2.54 mm)
simulation model OP296G (SUBCKT)
pins on every part: 4 V- (power), 8 V+ (power)
part A pins: 1 OUT (out), 2 IN- (in), 3 IN+ (in)
part B pins: 5 IN+ (in), 6 IN- (in), 7 OUT (out)
part A text: A
part B text: B

## OP296GRU
designator U?
Micropower, Rail-to-Rail Input and Output Operational Amplifier; Package Information: Latest Revision: 1997; Published: 8-Jun-2000; Revision: 17-Jul-2002: Re-released for DXP Platform.; Datasheet: Latest Revision: REV.O; Package Reference: RU-8; Publisher: Altium Limited
footprint RU-8 (Shrink Small Outline; 8 Leads; Body Width 4.4 mm; Pitch 0.65 mm)
simulation model OP296G (SUBCKT)
pins on every part: 4 V- (power), 8 V+ (power)
part A pins: 1 OUT (out), 2 IN- (in), 3 IN+ (in)
part B pins: 5 IN+ (in), 6 IN- (in), 7 OUT (out)
part A text: A
part B text: B

## OP296GS
designator U?
Micropower, Rail-to-Rail Input and Output Operational Amplifier; Package Information: Latest Revision: revA; Code - JEDEC: MS-012-AA; Code - IPC: SO8; Published: 8-Jun-2000; Revision: 17-Jul-2002: Re-released for DXP Platform.; Datasheet: Latest Revision: REV. B 1998; Package Reference: SO-8; Publisher: Altium Limited
footprint SO-8 (Small Outline; 8 Leads; Body Width 3.9 mm; Pitch 1.27 mm)
simulation model OP296G (SUBCKT)
pins on every part: 4 V- (power), 8 V+ (power)
part A pins: 1 OUT (out), 2 IN- (in), 3 IN+ (in)
part B pins: 5 IN+ (in), 6 IN- (in), 7 OUT (out)
part A text: A
part B text: B

## OP296HRU
designator U?
Micropower, Rail-to-Rail Input and Output Operational Amplifier; Package Information: Latest Revision: 1997; Published: 8-Jun-2000; Revision: 17-Jul-2002: Re-released for DXP Platform.; Datasheet: Latest Revision: REV. B 1998; Package Reference: RU-8; Publisher: Altium Limited
footprint RU-8 (Shrink Small Outline; 8 Leads; Body Width 4.4 mm; Pitch 0.65 mm)
simulation model OP296 (SUBCKT)
pins on every part: 4 V- (power), 8 V+ (power)
part A pins: 1 OUT (out), 2 IN- (in), 3 IN+ (in)
part B pins: 5 IN+ (in), 6 IN- (in), 7 OUT (out)
part A text: A
part B text: B

## OP297ARC/883
designator U?
Dual Low-Bias-Current Precision Operational Amplifier; Note: Pins 1, 3, 4, 6, 8, 9, 11, 13, 14, 16, 18 and 19 are not connected (NC) and are not drawn.; Published: 8-Jun-2000; Revision: 17-Jul-2002: Re-released for DXP Platform.; Datasheet: (1992); Package Reference: E-20A; Publisher: Altium Limited
footprint E-20A (Leadless Chip Carrier; 20 Terminals; Body 8.9 x 8.9 mm)
simulation model OP297A (SUBCKT)
pins on every part: 10 V- (power), 20 V+ (power)
part A pins: 2 OUT (out), 5 IN- (in), 7 IN+ (in)
part B pins: 12 IN+ (in), 15 IN- (in), 17 OUT (out)
part A text: A
part B text: B

## OP297AZ
designator U?
Dual Low-Bias-Current Precision Operational Amplifier; Package Information: Latest Revision: 1998; Published: 8-Jun-2000; Revision: 17-Jul-2002: Re-released for DXP Platform.; Datasheet: Designer's Reference Manual CD (REV. D 1997); Package Reference: Q-8; Publisher: Altium Limited
footprint Q-8 (DIP; 8 Leads; Row Spacing 7.62 mm; Pitch 2.54 mm)
simulation model OP297A (SUBCKT)
pins on every part: 4 V- (power), 8 V+ (power)
part A pins: 1 OUT (out), 2 IN- (in), 3 IN+ (in)
part B pins: 5 IN+ (in), 6 IN- (in), 7 OUT (out)
part A text: A
part B text: B

## OP297AZ/883
designator U?
Dual Low-Bias-Current Precision Operational Amplifier; Package Information: Latest Revision: 1998; Published: 8-Jun-2000; Revision: 17-Jul-2002: Re-released for DXP Platform.; Datasheet: Designer's Reference Manual CD (REV. D 1997); Package Reference: Q-8; Publisher: Altium Limited
footprint Q-8 (DIP; 8 Leads; Row Spacing 7.62 mm; Pitch 2.54 mm)
simulation model OP297A (SUBCKT)
pins on every part: 4 V- (power), 8 V+ (power)
part A pins: 1 OUT (out), 2 IN- (in), 3 IN+ (in)
part B pins: 5 IN+ (in), 6 IN- (in), 7 OUT (out)
part A text: A
part B text: B

## OP297EZ
designator U?
Dual Low-Bias-Current Precision Operational Amplifier; Package Information: Latest Revision: 1998; Published: 8-Jun-2000; Revision: 17-Jul-2002: Re-released for DXP Platform.; Datasheet: Designer's Reference Manual CD (REV. D 1997); Package Reference: Q-8; Publisher: Altium Limited
footprint Q-8 (DIP; 8 Leads; Row Spacing 7.62 mm; Pitch 2.54 mm)
simulation model OP297E (SUBCKT)
pins on every part: 4 V- (power), 8 V+ (power)
part A pins: 1 OUT (out), 2 IN- (in), 3 IN+ (in)
part B pins: 5 IN+ (in), 6 IN- (in), 7 OUT (out)
part A text: A
part B text: B

## OP297FP
designator U?
Dual Low-Bias-Current Precision Operational Amplifier; Code - JEDEC: MO-001-AN; Published: 8-Jun-2000; Revision: 17-Jul-2002: Re-released for DXP Platform.; Datasheet: Designer's Reference Manual CD (REV. D 1997); Package Reference: N-8_A; Publisher: Altium Limited
footprint N-8_A (DIP; 8 Leads; Row Spacing 7.62 mm; Pitch 2.54 mm)
simulation model OP297F (SUBCKT)
pins on every part: 4 V- (power), 8 V+ (power)
part A pins: 1 OUT (out), 2 IN- (in), 3 IN+ (in)
part B pins: 5 IN+ (in), 6 IN- (in), 7 OUT (out)
part A text: A
part B text: B

## OP297FZ
designator U?
Dual Low-Bias-Current Precision Operational Amplifier; Package Information: Latest Revision: 1998; Published: 8-Jun-2000; Revision: 17-Jul-2002: Re-released for DXP Platform.; Datasheet: (1992); Package Reference: Q-8; Publisher: Altium Limited
footprint Q-8 (DIP; 8 Leads; Row Spacing 7.62 mm; Pitch 2.54 mm)
simulation model OP297F (SUBCKT)
pins on every part: 4 V- (power), 8 V+ (power)
part A pins: 1 OUT (out), 2 IN- (in), 3 IN+ (in)
part B pins: 5 IN+ (in), 6 IN- (in), 7 OUT (out)
part A text: A
part B text: B

## OP297GP
designator U?
Dual Low-Bias-Current Precision Operational Amplifier; Code - JEDEC: MO-001-AN; Published: 8-Jun-2000; Revision: 17-Jul-2002: Re-released for DXP Platform.; Datasheet: Designer's Reference Manual CD (REV. D 1997); Package Reference: N-8_A; Publisher: Altium Limited
footprint N-8_A (DIP; 8 Leads; Row Spacing 7.62 mm; Pitch 2.54 mm)
simulation model OP297G (SUBCKT)
pins on every part: 4 V- (power), 8 V+ (power)
part A pins: 1 OUT (out), 2 IN- (in), 3 IN+ (in)
part B pins: 5 IN+ (in), 6 IN- (in), 7 OUT (out)
part A text: A
part B text: B

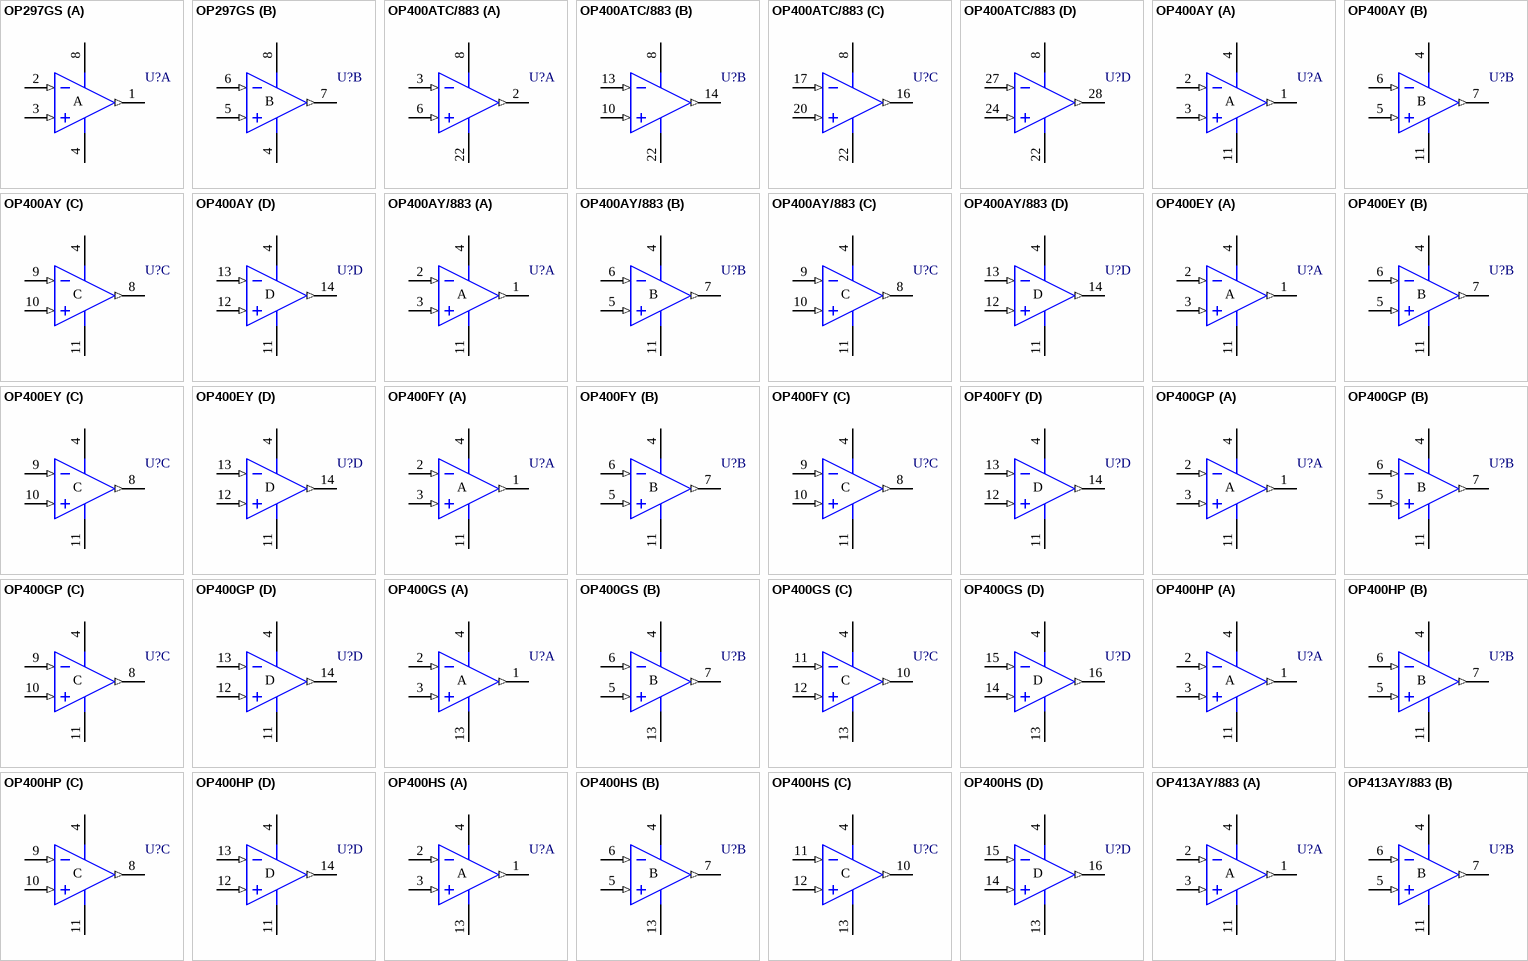
[diagram p35: symbols OP297GS to OP413AY/883]

## OP297GS
designator U?
Dual Low-Bias-Current Precision Operational Amplifier; Package Information: Latest Revision: revA; Code - JEDEC: MS-012-AA; Code - IPC: SO8; Published: 8-Jun-2000; Revision: 17-Jul-2002: Re-released for DXP Platform.; Datasheet: Designer's Reference Manual CD (REV. D 1997); Package Reference: SO-8; Publisher: Altium Limited
footprint SO-8 (Small Outline; 8 Leads; Body Width 3.9 mm; Pitch 1.27 mm)
simulation model OP297G (SUBCKT)
pins on every part: 4 V- (power), 8 V+ (power)
part A pins: 1 OUT (out), 2 IN- (in), 3 IN+ (in)
part B pins: 5 IN+ (in), 6 IN- (in), 7 OUT (out)
part A text: A
part B text: B

## OP400ATC/883
designator U?
Quad Low-Offset, Low-Power Operational Amplifier; Note: Pins 1, 4, 5, 7, 9, 11, 12, 15, 17, 18, 19, 21, 23, 25 and 26 are not connected (NC) and are not drawn.; Published: 8-Jun-2000; Revision: 17-Jul-2002: Re-released for DXP Platform.; Datasheet: Designer's Reference Manual CD (1992); Package Reference: E-28A; Publisher: Altium Limited
footprint E-28A (Leadless Chip Carrier; 28 Terminals; Body 11.4 x 11.4 mm)
simulation model OP400A (SUBCKT)
pins on every part: 8 V+ (power), 22 V- (power)
part A pins: 2 OUT (out), 3 IN- (in), 6 IN+ (in)
part B pins: 10 IN+ (in), 13 IN- (in), 14 OUT (out)
part C pins: 16 OUT (out), 17 IN- (in), 20 IN+ (in)
part D pins: 24 IN+ (in), 27 IN- (in), 28 OUT (out)

## OP400AY
designator U?
Quad Low-Offset, Low-Power Operational Amplifier; Package Information: Latest Revision: revB; Published: 8-Jun-2000; Revision: 17-Jul-2002: Re-released for DXP Platform.; Datasheet: Designer's Reference Manual CD (1992); Package Reference: Q-14; Publisher: Altium Limited
footprint Q-14 (DIP; 14 Leads; Row Spacing 7.62 mm; Pitch 2.54 mm)
simulation model OP400A (SUBCKT)
pins on every part: 4 V+ (power), 11 V- (power)
part A pins: 1 OUT (out), 2 IN- (in), 3 IN+ (in)
part B pins: 5 IN+ (in), 6 IN- (in), 7 OUT (out)
part C pins: 8 OUT (out), 9 IN- (in), 10 IN+ (in)
part D pins: 12 IN+ (in), 13 IN- (in), 14 OUT (out)
part A text: A
part B text: B
part C text: C
part D text: D

## OP400AY/883
designator U?
Quad Low-Offset, Low-Power Operational Amplifier; Package Information: Latest Revision: revB; Published: 8-Jun-2000; Revision: 17-Jul-2002: Re-released for DXP Platform.; Datasheet: Designer's Reference Manual CD (1992); Package Reference: Q-14; Publisher: Altium Limited
footprint Q-14 (DIP; 14 Leads; Row Spacing 7.62 mm; Pitch 2.54 mm)
simulation model OP400A (SUBCKT)
pins on every part: 4 V+ (power), 11 V- (power)
part A pins: 1 OUT (out), 2 IN- (in), 3 IN+ (in)
part B pins: 5 IN+ (in), 6 IN- (in), 7 OUT (out)
part C pins: 8 OUT (out), 9 IN- (in), 10 IN+ (in)
part D pins: 12 IN+ (in), 13 IN- (in), 14 OUT (out)
part A text: A
part B text: B
part C text: C
part D text: D

## OP400EY
designator U?
Quad Low-Offset, Low-Power Operational Amplifier; Package Information: Latest Revision: revB; Published: 8-Jun-2000; Revision: 17-Jul-2002: Re-released for DXP Platform.; Datasheet: Designer's Reference Manual CD (1992); Package Reference: Q-14; Publisher: Altium Limited
footprint Q-14 (DIP; 14 Leads; Row Spacing 7.62 mm; Pitch 2.54 mm)
simulation model OP400E (SUBCKT)
pins on every part: 4 V+ (power), 11 V- (power)
part A pins: 1 OUT (out), 2 IN- (in), 3 IN+ (in)
part B pins: 5 IN+ (in), 6 IN- (in), 7 OUT (out)
part C pins: 8 OUT (out), 9 IN- (in), 10 IN+ (in)
part D pins: 12 IN+ (in), 13 IN- (in), 14 OUT (out)
part A text: A
part B text: B
part C text: C
part D text: D

## OP400FY
designator U?
Quad Low-Offset, Low-Power Operational Amplifier; Package Information: Latest Revision: revB; Published: 8-Jun-2000; Revision: 17-Jul-2002: Re-released for DXP Platform.; Datasheet: Designer's Reference Manual CD (1992); Package Reference: Q-14; Publisher: Altium Limited
footprint Q-14 (DIP; 14 Leads; Row Spacing 7.62 mm; Pitch 2.54 mm)
simulation model OP400F (SUBCKT)
pins on every part: 4 V+ (power), 11 V- (power)
part A pins: 1 OUT (out), 2 IN- (in), 3 IN+ (in)
part B pins: 5 IN+ (in), 6 IN- (in), 7 OUT (out)
part C pins: 8 OUT (out), 9 IN- (in), 10 IN+ (in)
part D pins: 12 IN+ (in), 13 IN- (in), 14 OUT (out)
part A text: A
part B text: B
part C text: C
part D text: D

## OP400GP
designator U?
Quad Low-Offset, Low-Power Operational Amplifier; Package Information: Latest Revision: 1999; Published: 8-Jun-2000; Revision: 17-Jul-2002: Re-released for DXP Platform.; Datasheet: Designer's Reference Manual CD (1992); Package Reference: N-14; Publisher: Altium Limited
footprint N-14 (DIP; 14 Leads; Row Spacing 7.62 mm; Pitch 2.54 mm)
simulation model OP400G (SUBCKT)
pins on every part: 4 V+ (power), 11 V- (power)
part A pins: 1 OUT (out), 2 IN- (in), 3 IN+ (in)
part B pins: 5 IN+ (in), 6 IN- (in), 7 OUT (out)
part C pins: 8 OUT (out), 9 IN- (in), 10 IN+ (in)
part D pins: 12 IN+ (in), 13 IN- (in), 14 OUT (out)
part A text: A
part B text: B
part C text: C
part D text: D